# Altium footprint library BCD_Clock_PCB_Lib.PcbLib: 24 footprints (part 1 of 2)
Each footprint in its own frame and in the unit in brackets; x right, y up, seen from the top. Pads: shape width x height; smd on the part's side, far side on the other; paste and mask are expansions set on the pad; w line width, h text height; cw(c..) or ccw(c..) is an arc to the next point about the centre after c.
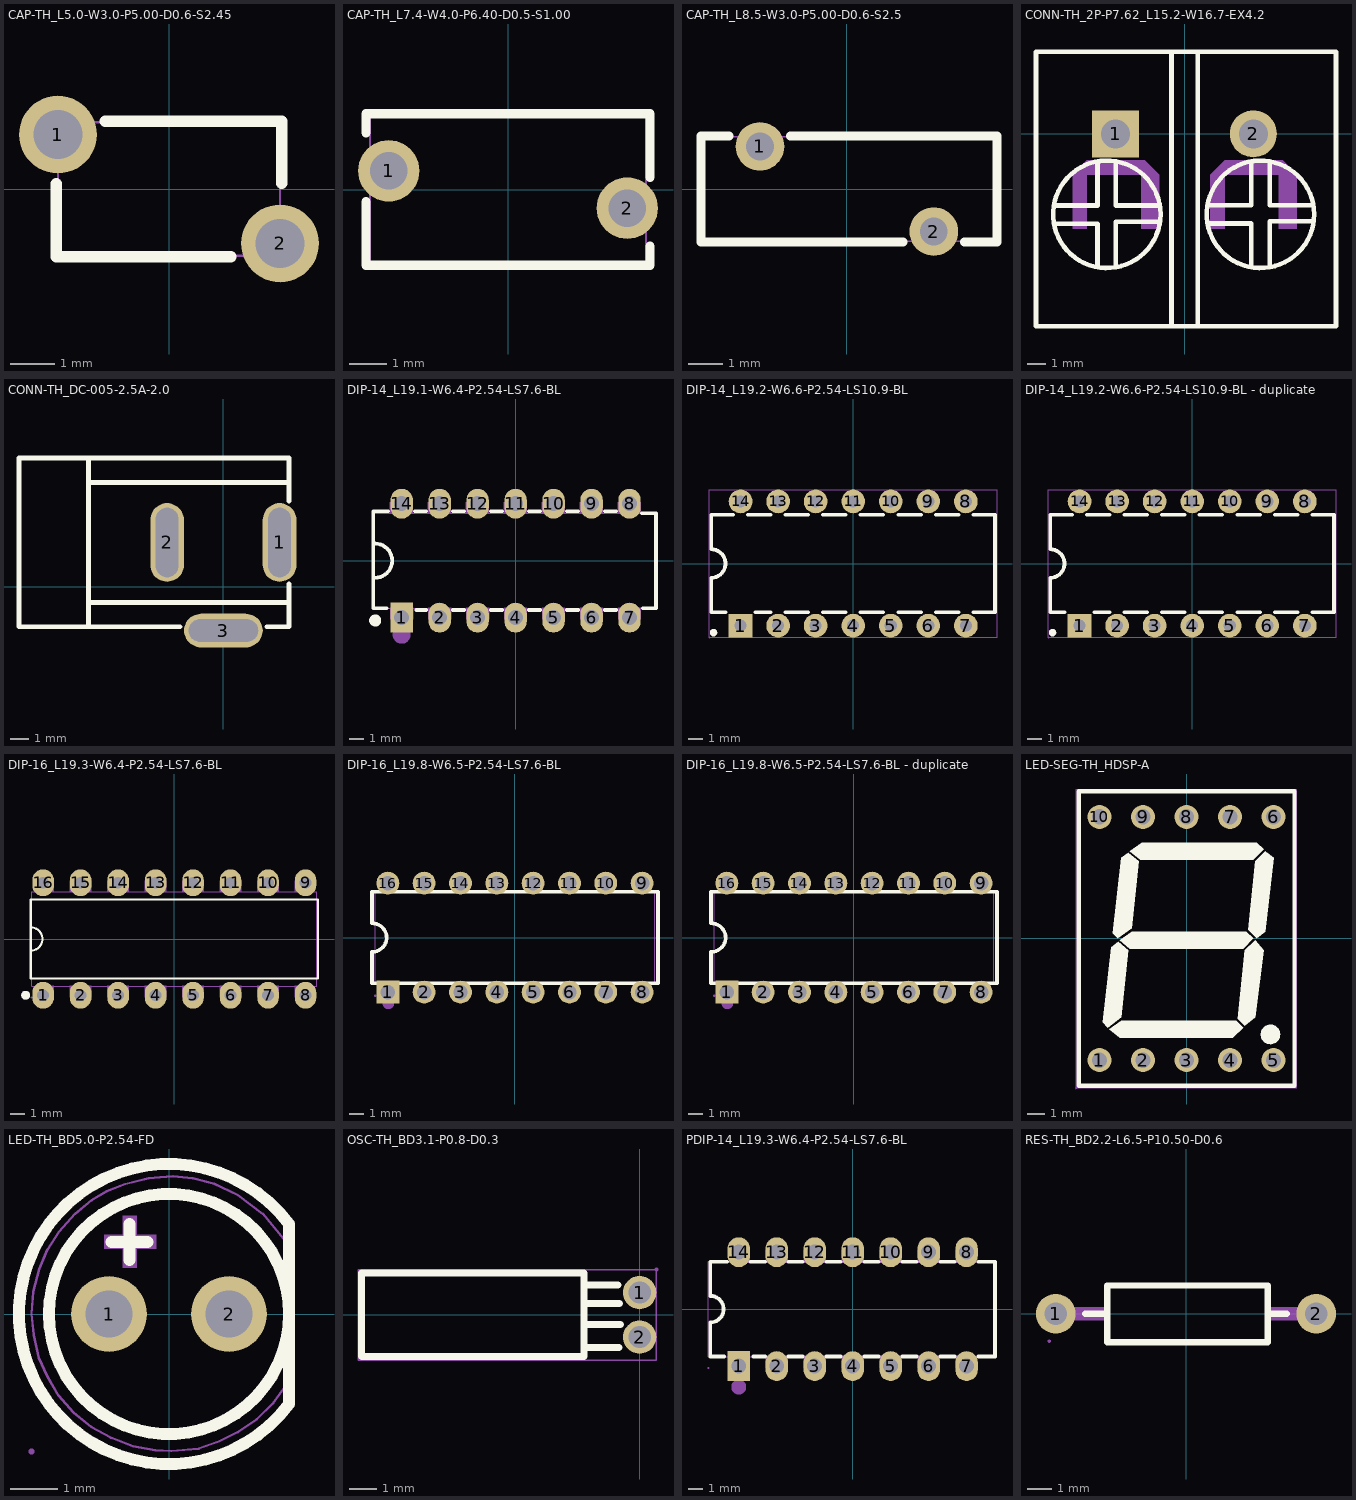
[diagram p0: the footprints below, top view; thin cyan lines are the x and y axes]

## CAP-TH_L5.0-W3.0-P5.00-D0.6-S2.45 [mm]
pads (2):
  round 1.75 hole 1.1 paste-2539.97 mask+0.05: 1(-2.5,1.225) 2(2.5,-1.225)
Top Overlay:
  lines w0.254: -2.54,0.12 -2.54,-1.524 1.397,-1.524 ; -1.435,1.524 2.54,1.524 2.54,0.127
Mechanical 15:
  region: 2.775,-1.225 2.774,-1.171 2.731,-1.072 2.654,-0.997 2.554,-0.956 2.446,-0.956 2.346,-0.996 2.269,-1.072 2.226,-1.171 2.225,-1.225 2.226,-1.279 2.269,-1.378 2.346,-1.454 2.446,-1.494 2.554,-1.494 2.654,-1.454 2.731,-1.378 2.774,-1.279
  region: -2.225,1.225 -2.226,1.279 -2.269,1.378 -2.346,1.454 -2.446,1.494 -2.554,1.494 -2.654,1.454 -2.731,1.378 -2.774,1.279 -2.775,1.225 -2.774,1.171 -2.731,1.072 -2.654,0.997 -2.554,0.956 -2.446,0.956 -2.346,0.997 -2.269,1.072 -2.226,1.171
  region: -2.715,1.5 -2.716,1.524 -2.751,1.558 -2.799,1.558 -2.834,1.524 -2.835,1.5 -2.834,1.476 -2.799,1.442 -2.751,1.442 -2.716,1.476
  lines w0.051: -2.5,-1.5 2.5,-1.5 2.5,1.5 -2.5,1.5 -2.5,-1.5

## CAP-TH_L7.4-W4.0-P6.40-D0.5-S1.00 [mm]
pads (2):
  round 1.65 hole 1 copper offset 0,0 paste-2539.97 mask+0.05: 1(-3.2,0.5) 2(3.2,-0.5)
Top Overlay:
  lines w0.254: -3.81,-0.331 -3.81,-2.032 3.81,-2.032 3.81,-1.524 ; -3.81,1.524 -3.81,2.032 3.81,2.032 3.81,0.33
Mechanical 15:
  region: -3.64,2 -3.641,2.025 -3.676,2.059 -3.725,2.059 -3.76,2.025 -3.76,2 -3.76,1.976 -3.725,1.941 -3.676,1.941 -3.641,1.976
  region: -2.95,0.5 -2.951,0.549 -2.989,0.64 -3.059,0.71 -3.151,0.747 -3.249,0.747 -3.341,0.71 -3.411,0.64 -3.449,0.549 -3.45,0.5 -3.449,0.451 -3.411,0.36 -3.341,0.29 -3.249,0.253 -3.151,0.253 -3.059,0.29 -2.989,0.36 -2.951,0.451
  region: 3.45,-0.5 3.449,-0.451 3.411,-0.36 3.341,-0.29 3.249,-0.253 3.151,-0.253 3.059,-0.29 2.989,-0.36 2.951,-0.451 2.95,-0.5 2.951,-0.549 2.989,-0.64 3.059,-0.71 3.151,-0.747 3.249,-0.747 3.341,-0.71 3.411,-0.64 3.449,-0.549
  lines w0.051: -3.7,-2 -3.7,2 3.7,2 3.7,-2 -3.7,-2

## CAP-TH_L8.5-W3.0-P5.00-D0.6-S2.5 [mm]
pads (2):
  round 1.4 hole 0.8: 1(-2.5,1.225) 2(2.5,-1.225)
Top Overlay:
  lines w0.254: -3.382,1.524 -4.191,1.524 -4.191,-1.524 1.618,-1.524 ; -1.618,1.524 4.191,1.524 4.318,1.524 4.318,-1.524 3.382,-1.524
Mechanical 15:
  region: -4.19,1.5 -4.19,1.525 -4.225,1.56 -4.275,1.56 -4.31,1.525 -4.31,1.5 -4.31,1.475 -4.275,1.44 -4.225,1.44 -4.19,1.475
  region: 2.775,-1.225 2.774,-1.171 2.732,-1.071 2.654,-0.995 2.554,-0.954 2.446,-0.954 2.346,-0.995 2.269,-1.071 2.226,-1.171 2.225,-1.225 2.226,-1.279 2.269,-1.379 2.346,-1.455 2.446,-1.496 2.554,-1.496 2.654,-1.455 2.732,-1.379 2.774,-1.279
  region: -2.225,1.225 -2.226,1.279 -2.268,1.379 -2.346,1.455 -2.446,1.496 -2.554,1.496 -2.654,1.455 -2.731,1.379 -2.774,1.279 -2.775,1.225 -2.774,1.171 -2.731,1.071 -2.654,0.995 -2.554,0.954 -2.446,0.954 -2.346,0.995 -2.268,1.071 -2.226,1.171
  lines w0.051: -4.25,-1.5 -4.25,1.5 4.25,1.5 4.25,-1.5 -4.25,-1.5

## CONN-TH_2P-P7.62_L15.2-W16.7-EX4.2 [mm]
pads (2):
  rect 2.6x2.6 hole 1.6 paste-2539.97 mask+0.051: 1(-3.81,0)
  round 2.6 hole 1.6 paste-2539.97 mask+0.051: 2(3.81,0)
Top Overlay:
  circle w0.254: c-4.3,-4.45 r2.973
  circle w0.254: c4.2,-4.45 r2.973
  lines w0.254: -7.229,-4.979 -4.816,-4.979 -4.816,-7.265 ; -7.229,-3.963 -4.816,-3.963 -4.816,-1.55 ; -3.8,-7.265 -3.8,-4.852 -1.387,-4.852 ; -3.8,-1.55 -3.8,-3.963 -1.387,-3.963 ; 1.279,-4.958 3.692,-4.958 3.692,-7.244 ; 1.279,-3.942 3.692,-3.942 3.692,-1.529 ; 4.708,-7.244 4.708,-4.831 7.121,-4.831 ; 4.708,-1.529 4.708,-3.942 7.121,-3.942 ; -8.22,-10.65 -8.22,4.55 8.38,4.55 8.38,-10.65 -8.22,-10.65 ; -0.72,-10.65 -0.72,4.55 0.73,4.55 0.73,-10.65 -0.72,-10.65
Mechanical 15:
  region: 5.22,-5.25 6.22,-5.25 6.22,-2.25 5.22,-2.25
  region: 1.42,-2.25 2.22,-1.45 5.22,-1.45 5.42,-1.45 6.22,-2.25
  region: 1.42,-5.25 1.42,-2.25 2.22,-2.25 2.22,-5.25
  region: -2.4,-5.25 -1.4,-5.25 -1.4,-2.25 -2.4,-2.25
  region: -6.2,-2.25 -5.4,-1.45 -2.4,-1.45 -2.2,-1.45 -1.4,-2.25
  region: -6.2,-5.25 -6.2,-2.25 -5.4,-2.25 -5.4,-5.25

## CONN-TH_DC-005-2.5A-2.0 [mm]
pads (3):
  oval 1.8x4.2 hole 1.2 slot 3.7 at 90 deg paste-2539.97 mask+0.051: 1(3,2.35) 2(-3,2.35)
  oval 4.2x1.8 hole 1.2 slot 3.7 at 0 deg paste-2539.97 mask+0.051: 3(0,-2.35)
Top Overlay:
  lines w0.254: -7.2,-2.15 -7.2,6.85 ; -7.12,-0.85 3.5,-0.85 ; -7.12,5.55 3.5,5.55 ; -2.313,-2.15 -10.9,-2.15 -10.9,6.85 3.5,6.85 3.5,4.564 ; 2.313,-2.15 3.5,-2.15 3.5,0.136
3D body "CN_DS-201A.step": height 11, standoff -4.09, extent -10.802,-2.087 3.098,6.913

## DIP-14_L19.1-W6.4-P2.54-LS7.6-BL [mm]
pads (14):
  rect 1.5x2 hole 1: 1(-7.62,-3.81)
  oval 1.5x2 hole 1: 2(-5.08,-3.81) 3(-2.54,-3.81) 4(0,-3.81) 5(2.54,-3.81) 6(5.08,-3.81) 7(7.62,-3.81) 8(7.62,3.81) 9(5.08,3.81) 10(2.54,3.81) 11(0,3.81) 12(-2.54,3.81) 13(-5.08,3.81) 14(-7.62,3.81)
Top Overlay:
  circle w0.4: c-9.39,-4 r0.2
  lines w0.254: -9.398,-1.143 ccw(c-9.398,0) -9.397,1.143 ; -8.636,-3.175 -9.525,-3.175 -9.525,3.302 -8.517,3.302 ; -6.724,3.3 -5.976,3.3 ; -6.639,-3.3 -5.976,-3.3 ; -4.184,-3.3 -3.436,-3.3 ; -4.184,3.3 -3.436,3.3 ; -1.644,-3.3 -0.896,-3.3 ; -1.644,3.3 -0.896,3.3 ; 0.896,-3.3 1.644,-3.3 ; 0.896,3.3 1.644,3.3 ; 3.436,-3.3 4.184,-3.3 ; 3.436,3.3 4.184,3.3 ; 5.976,-3.3 6.724,-3.3 ; 5.976,3.3 6.724,3.3 ; 8.448,3.175 9.398,3.175 9.398,-3.175 8.509,-3.175
Mechanical 6:
  circle w0.6: c-7.62,-4.953 r0.3
Mechanical 15:
  drawing of 33 lines, arcs and shapes, not listed
3D body "DIP-14 N.step": height 4.14, standoff -3.21, extent -8.75,-4.568 8.75,4.568

## DIP-14_L19.2-W6.6-P2.54-LS10.9-BL [mil]
pads (14):
  rect 63x63 hole 32: 1(-300,-165.35)
  round 63 hole 32: 2(-200,-165.35) 3(-100,-165.35) 4(0,-165.35) 5(100,-165.35) 6(200,-165.35) 7(300,-165.35) 8(300,165.35) 9(200,165.35) 10(100,165.35) 11(0,165.35) 12(-100,165.35) 13(-200,165.35) 14(-300,165.35)
Top Overlay:
  circle w10: c-372,-184 r5
  lines w10: -378,-38 ccw(c-377.98,0) -377.95,37.99 -377.95,129.92 -319.71,129.92 ; -377.95,-38 -377.95,-129.92 -339.69,-129.92 ; -280.29,129.92 -219.72,129.92 ; -260.31,-129.92 -219.72,-129.92 ; -180.28,-129.92 -119.72,-129.92 ; -180.28,129.92 -119.72,129.92 ; -80.28,-129.92 -19.71,-129.92 ; -80.28,129.92 -19.71,129.92 ; 19.71,-129.92 80.28,-129.92 ; 19.71,129.92 80.28,129.92 ; 119.72,-129.92 180.28,-129.92 ; 119.72,129.92 180.28,129.92 ; 219.72,-129.92 280.29,-129.92 ; 219.72,129.92 280.29,129.92 ; 319.71,-129.92 377.95,-129.92 377.95,129.92 319.71,129.92
Mechanical 15:
  drawing of 19 lines, arcs and shapes, not listed
3D body "DIP-14 N.step": height 162.99, standoff -126.4, extent -344.49,-179.85 344.49,179.85

## DIP-14_L19.2-W6.6-P2.54-LS10.9-BL - duplicate [mil]
pads (14):
  rect 63x63 hole 32: 1(-300,-165.35)
  round 63 hole 32: 2(-200,-165.35) 3(-100,-165.35) 4(0,-165.35) 5(100,-165.35) 6(200,-165.35) 7(300,-165.35) 8(300,165.35) 9(200,165.35) 10(100,165.35) 11(0,165.35) 12(-100,165.35) 13(-200,165.35) 14(-300,165.35)
Top Overlay:
  circle w10: c-372,-184 r5
  lines w10: -378,-38 ccw(c-377.98,0) -377.95,37.99 -377.95,129.92 -319.71,129.92 ; -377.95,-38 -377.95,-129.92 -339.69,-129.92 ; -280.29,129.92 -219.72,129.92 ; -260.31,-129.92 -219.72,-129.92 ; -180.28,-129.92 -119.72,-129.92 ; -180.28,129.92 -119.72,129.92 ; -80.28,-129.92 -19.71,-129.92 ; -80.28,129.92 -19.71,129.92 ; 19.71,-129.92 80.28,-129.92 ; 19.71,129.92 80.28,129.92 ; 119.72,-129.92 180.28,-129.92 ; 119.72,129.92 180.28,129.92 ; 219.72,-129.92 280.29,-129.92 ; 219.72,129.92 280.29,129.92 ; 319.71,-129.92 377.95,-129.92 377.95,129.92 319.71,129.92
Mechanical 15:
  drawing of 19 lines, arcs and shapes, not listed
3D body "DIP-14 N.step": height 162.99, standoff -126.4, extent -344.49,-179.85 344.49,179.85

## DIP-16_L19.3-W6.4-P2.54-LS7.6-BL [mm]
pads (16):
  oval 1.46x1.825 hole 0.8: 1(-8.89,-3.81) 2(-6.35,-3.81) 3(-3.81,-3.81) 4(-1.27,-3.81) 5(1.27,-3.81) 6(3.81,-3.81) 7(6.35,-3.81) 8(8.89,-3.81) 9(8.89,3.81) 10(6.35,3.81) 11(3.81,3.81) 12(1.27,3.81) 13(-1.27,3.81) 14(-3.81,3.81) 15(-6.35,3.81) 16(-8.89,3.81)
Top Overlay:
  circle w0.3: c-10.072,-3.81 r0.15
  lines w0.152: -9.729,-0.794 ccw(c-9.729,0) -9.729,0.794 ; -9.729,-2.669 9.729,-2.669 9.729,2.669 -9.729,2.669 -9.729,-2.669
Mechanical 6:
  circle w0.3: c-10.072,-3.81 r0.15
Mechanical 15:
  drawing of 37 lines, arcs and shapes, not listed
3D body "DIP-16 N.step": height 4.14, standoff -3.21, extent -10.02,-4.568 10.02,4.568

## DIP-16_L19.8-W6.5-P2.54-LS7.6-BL [mm]
pads (16):
  rect 1.6x1.6 hole 1: 1(-8.89,-3.81)
  round 1.6 hole 1 copper offset 0,0: 2(-6.35,-3.81) 3(-3.81,-3.81) 4(-1.27,-3.81) 5(1.27,-3.81) 6(3.81,-3.81) 7(6.35,-3.81) 8(8.89,-3.81) 9(8.89,3.81) 10(6.35,3.81) 11(3.81,3.81) 12(1.27,3.81) 13(-1.27,3.81) 14(-3.81,3.81) 15(-6.35,3.81) 16(-8.89,3.81)
Top Overlay:
  lines w0.254: -10,-1 -10,-3.2 10,-3.2 10,3.2 -10,3.2 ; -10,0.998 -10,3.198 ; -10,1 cw(c-9.975,0) -9.95,-1
Mechanical 6:
  circle w0.4: c-8.85,-4.6 r0.2
Mechanical 15:
  drawing of 37 lines, arcs and shapes, not listed
3D body "DIP-16 N.step": height 4.14, standoff -3.21, extent -10.02,-4.568 10.02,4.568

## DIP-16_L19.8-W6.5-P2.54-LS7.6-BL - duplicate [mm]
pads (16):
  rect 1.6x1.6 hole 1: 1(-8.89,-3.81)
  round 1.6 hole 1 copper offset 0,0: 2(-6.35,-3.81) 3(-3.81,-3.81) 4(-1.27,-3.81) 5(1.27,-3.81) 6(3.81,-3.81) 7(6.35,-3.81) 8(8.89,-3.81) 9(8.89,3.81) 10(6.35,3.81) 11(3.81,3.81) 12(1.27,3.81) 13(-1.27,3.81) 14(-3.81,3.81) 15(-6.35,3.81) 16(-8.89,3.81)
Top Overlay:
  lines w0.254: -10,-1 -10,-3.2 10,-3.2 10,3.2 -10,3.2 ; -10,0.998 -10,3.198 ; -10,1 cw(c-9.975,0) -9.95,-1
Mechanical 6:
  circle w0.4: c-8.85,-4.6 r0.2
Mechanical 15:
  drawing of 37 lines, arcs and shapes, not listed
3D body "DIP-16 N.step": height 4.14, standoff -3.21, extent -10.02,-4.568 10.02,4.568

## LED-SEG-TH_HDSP-A [mil]
pads (10):
  round 55.12 hole 35.43: 1(-200,-279.5) 2(-100,-279.5) 3(0,-279.5) 4(100,-279.5) 5(200,-279.5) 6(200,279.5) 7(100,279.5) 8(0,279.5) 9(-100,279.5) 10(-200,279.5)
Top Overlay:
  circle w10: c192.91,-220.47 r17.72
  circle w10: c192.91,-220.47 r7.88
  circle w10: c192.91,-220.47 r3.94
  region: -157.45,-7.86 -133.83,-27.55 -149.57,-181.09 -181.1,-204.72 -192.91,-192.91 -173.2,-19.67
  region: 157.51,-3.92 177.17,-27.5 157.48,-181.1 133.87,-200.72 118.14,-185.04 133.89,-27.55
  region: 181.1,200.79 196.85,185.04 181.1,23.62 157.47,3.98 141.74,19.67 157.49,177.15
  region: -133.86,196.85 -110.24,177.16 -125.98,23.62 -157.48,0 -169.29,11.81 -149.61,185.04
  region: -149.59,-188.98 114.18,-188.98 129.93,-204.73 106.31,-228.35 -153.53,-228.35 -177.15,-208.66
  region: -125.98,15.75 137.79,15.75 153.54,0 129.92,-23.62 -129.92,-23.62 -153.54,-3.93
  region: -102.36,220.47 161.41,220.47 177.16,204.72 153.54,181.1 -106.3,181.1 -129.92,200.79
  region: 161.42,0 141.73,19.68 157.51,177.17 185.07,196.85 200.82,185.04 181.14,15.75
  lines w10: -248.03,-338.58 248.03,-338.58 248.03,338.58 -248.03,338.58 -248.03,-338.58
Mechanical 15:
  drawing of 15 lines, arcs and shapes, not listed
3D body "7 Sement.STEP": height 314.96, standoff -216.54, extent -245,-336.61 243.19,336.61

## LED-TH_BD5.0-P2.54-FD [mm]
pads (2):
  round 1.6 hole 1: 1(-1.27,0) 2(1.27,0)
Top Overlay:
  circle w0.254: c0,0 r2.54
  lines w0.254: -1.219,1.524 -0.457,1.524 ; -0.838,1.143 -0.838,1.905 ; 2.54,-1.905 cw(c0,0) 2.54,1.905 2.54,-1.905
Mechanical 6:
  region: -1.372,1.682 -0.272,1.682 -0.272,1.382 -1.372,1.382
  region: -0.98,0.983 -0.98,2.083 -0.68,2.083 -0.68,0.983
Mechanical 15:
  region: -2.849,-2.909 -2.849,-2.884 -2.884,-2.849 -2.934,-2.849 -2.969,-2.884 -2.969,-2.909 -2.969,-2.934 -2.934,-2.969 -2.884,-2.969 -2.849,-2.934
  region: -1.02,0 -1.021,0.049 -1.059,0.14 -1.129,0.209 -1.221,0.247 -1.319,0.247 -1.411,0.209 -1.481,0.14 -1.519,0.049 -1.52,0 -1.519,-0.049 -1.481,-0.14 -1.411,-0.209 -1.319,-0.247 -1.221,-0.247 -1.129,-0.209 -1.059,-0.14 -1.021,-0.049
  region: 1.52,0 1.519,0.049 1.481,0.14 1.411,0.209 1.319,0.247 1.221,0.247 1.129,0.209 1.059,0.14 1.021,0.049 1.02,0 1.021,-0.049 1.059,-0.14 1.129,-0.209 1.221,-0.247 1.319,-0.247 1.411,-0.209 1.481,-0.14 1.519,-0.049
  lines w0.051: -2.91,0.005 -2.866,-0.442 -2.758,-0.926 -2.578,-1.316 -2.338,-1.726 -2.023,-2.085 -1.643,-2.389 -1.234,-2.616 -0.763,-2.799 -0.289,-2.884 0.05,-2.9 0.626,-2.849 1.052,-2.7 1.459,-2.5 1.858,-2.229 2.204,-1.89 2.478,-1.504 2.488,1.478 2.424,1.593 1.987,2.122 1.455,2.518 0.958,2.755 0.504,2.87 0.084,2.917 -0.19,2.894 -0.431,2.87 -0.925,2.752 -1.322,2.599 -1.633,2.409 -1.989,2.122 -2.327,1.739 -2.575,1.36 -2.744,0.95 -2.873,0.472 -2.91,0.005
3D body "LED 5mm.STEP": height 8.8, standoff -27, extent -3,-2.99 2.5,2.99

## OSC-TH_BD3.1-P0.8-D0.3 [mm]
pads (2):
  round 1.2 hole 0.8: 1(0,0.8) 2(0,-0.8)
Top Overlay:
  lines w0.254: -2,-1.177 -0.74,-1.177 ; -2,-0.35 -0.698,-0.35 ; -2,0.403 -0.73,0.403 ; -2,1.071 -0.786,1.071 ; -10,-1.5 -10,1.5 -2,1.5 -2,-1.5 -10,-1.5
Mechanical 15:
  region: 0.3,0.8 0.3,0.86 0.254,0.97 0.17,1.054 0.06,1.1 -0.06,1.1 -0.17,1.054 -0.254,0.97 -0.3,0.86 -0.3,0.8 -0.3,0.74 -0.254,0.63 -0.17,0.546 -0.06,0.5 0.06,0.5 0.17,0.546 0.254,0.63 0.3,0.74
  region: 0.3,-0.8 0.3,-0.741 0.254,-0.63 0.17,-0.546 0.06,-0.5 -0.06,-0.5 -0.17,-0.546 -0.254,-0.63 -0.3,-0.741 -0.3,-0.8 -0.3,-0.86 -0.254,-0.97 -0.17,-1.055 -0.06,-1.1 0.06,-1.1 0.17,-1.055 0.254,-0.97 0.3,-0.86
  region: 0.66,1.627 0.66,1.652 0.625,1.687 0.575,1.687 0.54,1.652 0.54,1.627 0.54,1.602 0.575,1.567 0.625,1.567 0.66,1.602
  lines w0.051: -10.127,-1.627 0.6,-1.627 0.6,1.627 -10.127,1.627 -10.127,-1.627

## PDIP-14_L19.3-W6.4-P2.54-LS7.6-BL [mm]
pads (14):
  rect 1.5x2 hole 1: 1(-7.62,-3.81)
  oval 1.5x2 hole 1: 2(-5.08,-3.81) 3(-2.54,-3.81) 4(0,-3.81) 5(2.54,-3.81) 6(5.08,-3.81) 7(7.62,-3.81) 8(7.62,3.81) 9(5.08,3.81) 10(2.54,3.81) 11(0,3.81) 12(-2.54,3.81) 13(-5.08,3.81) 14(-7.62,3.81)
Top Overlay:
  lines w0.254: -8.601,-3.175 -9.525,-3.175 -9.525,-0.889 ccw(c-9.525,0) -9.525,0.889 -9.525,3.175 -8.414,3.175 ; -6.826,3.175 -5.874,3.175 ; -6.639,-3.175 -5.874,-3.175 ; -4.286,-3.175 -3.334,-3.175 ; -4.286,3.175 -3.334,3.175 ; -1.746,-3.175 -0.794,-3.175 ; -1.746,3.175 -0.794,3.175 ; 0.794,-3.175 1.746,-3.175 ; 0.794,3.175 1.746,3.175 ; 3.334,-3.175 4.286,-3.175 ; 3.334,3.175 4.286,3.175 ; 5.874,-3.175 6.826,-3.175 ; 5.874,3.175 6.826,3.175 ; 8.414,-3.175 9.525,-3.175 9.525,3.175 8.414,3.175
Mechanical 6:
  circle w0.5: c-7.62,-5.207 r0.25
Mechanical 15:
  drawing of 33 lines, arcs and shapes, not listed

## RES-TH_BD2.2-L6.5-P10.50-D0.6 [mm]
pads (2):
  round 1.6 hole 0.914: 1(-5.25,0) 2(5.25,0)
Top Overlay:
  lines w0.254: -4.064,0 -3.302,0 ; 3.302,0 4.064,0 ; -3.175,-1.143 3.302,-1.143 3.302,1.143 -3.175,1.143 -3.175,-1.143
Mechanical 15:
  region: -5.46,-1.1 -5.46,-1.075 -5.495,-1.04 -5.545,-1.04 -5.58,-1.075 -5.58,-1.1 -5.58,-1.125 -5.545,-1.16 -5.495,-1.16 -5.46,-1.125
  region: 5.52,0 5.52,0.054 5.479,0.153 5.403,0.229 5.304,0.27 5.196,0.27 5.097,0.229 5.021,0.153 4.98,0.054 4.98,0 4.98,-0.054 5.021,-0.153 5.097,-0.229 5.196,-0.27 5.304,-0.27 5.403,-0.229 5.479,-0.153 5.52,-0.054
  region: -4.98,0 -4.98,0.054 -5.021,0.153 -5.097,0.229 -5.196,0.27 -5.304,0.27 -5.403,0.229 -5.479,0.153 -5.52,0.054 -5.52,0 -5.52,-0.054 -5.479,-0.153 -5.403,-0.229 -5.304,-0.27 -5.196,-0.27 -5.097,-0.229 -5.021,-0.153 -4.98,-0.054
  region: -5.52,-0.27 -3.2,-0.27 -3.2,0.27 -5.52,0.27
  region: 5.52,0.27 3.2,0.27 3.2,-0.27 5.52,-0.27
  lines w0.051: -3.25,-1.1 3.25,-1.1 3.25,1.1 -3.25,1.1 -3.25,-1.1
3D body "Resistor TH horizontal 10,16.stp": height 2.51, standoff -2, extent -5.255,-1.287 5.255,1.016